# EAGLE library part PCM1727E (library burr-brown)
SoundPlus(TM) Stereo Audio DAC with Programmable Dual PLL
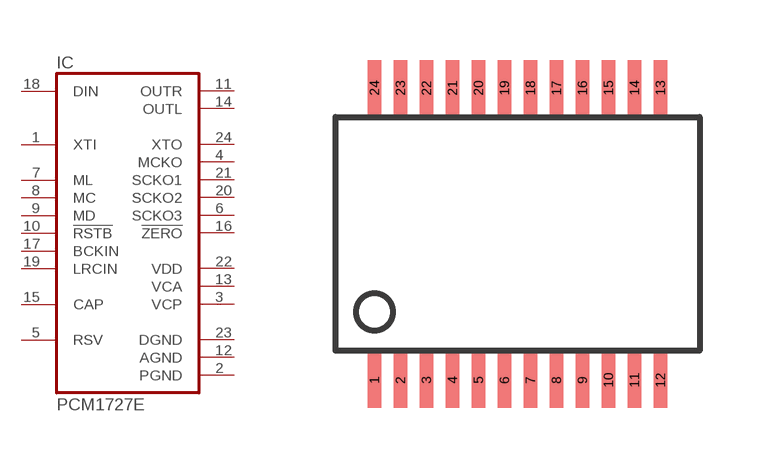
[diagram p126: symbol with the pads of SSOP24BU; footprint SSOP24BU]

Designator prefix IC

## PCM1727E (MANUFACTURER: TEXAS INSTRUMENT CONNECTORS; MPN: PCM1727E)  [SSOP24BU]
1  XTI  in
2  PGND  pwr
3  VCP  pwr
4  MCKO  out
5  RSV  pas
6  SCKO3  out
7  ML  in
8  MC  in
9  MD  in
10  !RSTB  in
11  OUTR  out
12  AGND  pwr
13  VCA  pwr
14  OUTL  out
15  CAP  pas
16  !ZERO  out
17  BCKIN  in
18  DIN  in
19  LRCIN  in
20  SCKO2  out
21  SCKO1  out
22  VDD  pwr
23  DGND  pwr
24  XTO  out

## Footprint SSOP24BU (pad centres in mm)
Small Shrink Outline Package
smd 0.348 x 1.397: 1 -3.575,-3.656; 2 -2.925,-3.656; 3 -2.275,-3.656; 4 -1.625,-3.656; 5 -0.975,-3.656; 6 -0.325,-3.656; 7 0.325,-3.656; 8 0.975,-3.656; 9 1.625,-3.656; 10 2.275,-3.656; 11 2.925,-3.656; 12 3.575,-3.656; 13 3.575,3.656; 14 2.925,3.656; 15 2.275,3.656; 16 1.625,3.656; 17 0.975,3.656; 18 0.325,3.656; 19 -0.325,3.656; 20 -0.975,3.656; 21 -1.625,3.656; 22 -2.275,3.656; 23 -2.925,3.656; 24 -3.575,3.656